# Altium footprint library WiFi_ESP8266.PcbLib: 1 footprints
Each footprint in its own frame and in the unit in brackets; x right, y up, seen from the top. Pads: shape width x height; smd on the part's side, far side on the other; paste and mask are expansions set on the pad; w line width, h text height; cw(c..) or ccw(c..) is an arc to the next point about the centre after c.
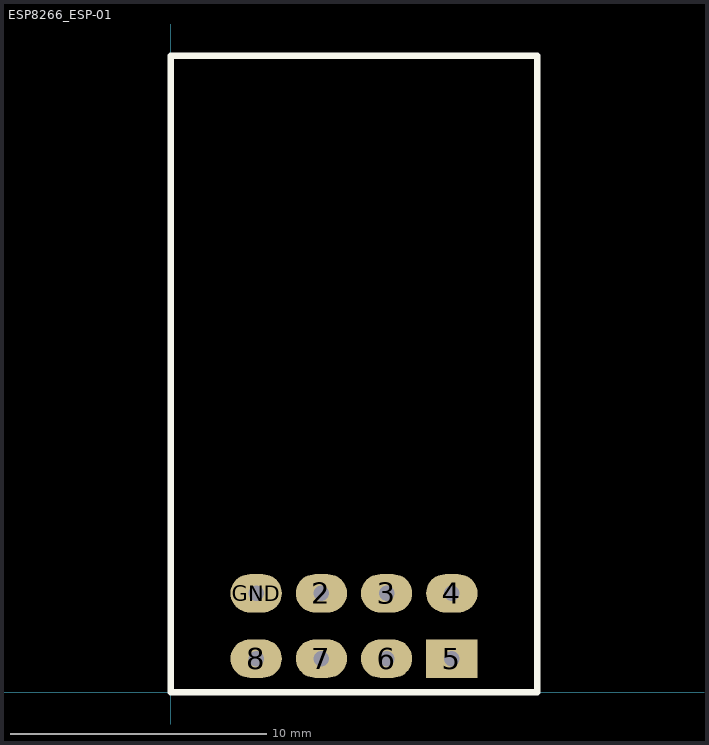
[diagram p0: the footprint, top view; thin cyan lines are the x and y axes]

## ESP8266_ESP-01 [mm]
pads (8):
  oval 2x1.5 hole 0.6: 2(5.88,3.85) 3(8.42,3.85) 4(10.96,3.85) 6(8.42,1.31) 7(5.88,1.31) 8(3.34,1.31) GND(3.34,3.85)
  rect 2x1.5 hole 0.6: 5(10.96,1.31)
Top Overlay:
  lines w0.254: 0,0 0,24.8 14.3,24.8 14.3,0 0,0
3D body "ESP-01S (ESP8266) Board Module.step": height 1.65, standoff -9.59, extent 0,0 14.8,24.75